# Altium footprint library MS5611.PcbLib: 1 footprints
Each footprint in its own frame and in the unit in brackets; x right, y up, seen from the top. Pads: shape width x height; smd on the part's side, far side on the other; paste and mask are expansions set on the pad; w line width, h text height; cw(c..) or ccw(c..) is an arc to the next point about the centre after c.
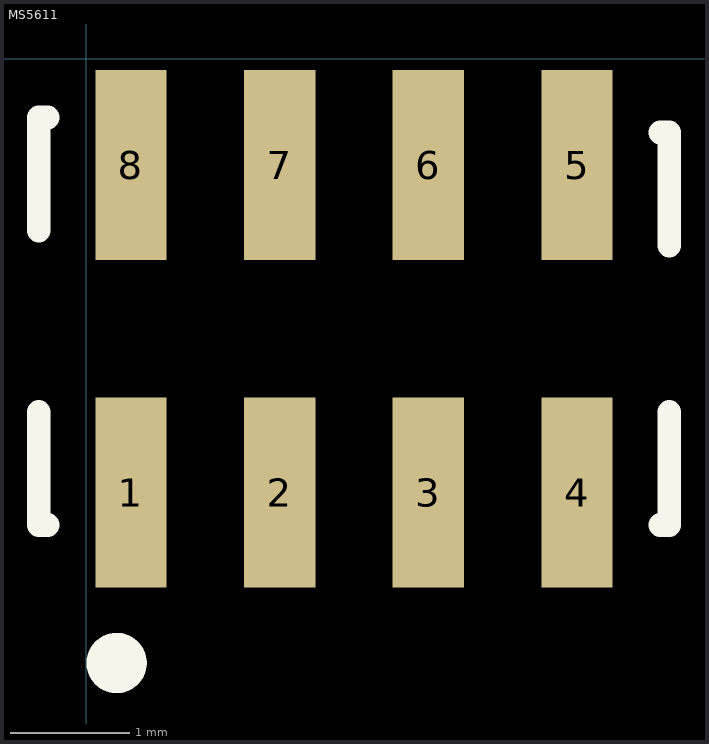
[diagram p0: the footprint, top view; thin cyan lines are the x and y axes]

## MS5611 [mm]
pads (8):
  rect 0.6x1.6 smd: 1(0.375,-3.647) 2(1.625,-3.647) 3(2.875,-3.647) 4(4.125,-3.647) 5(4.125,-0.893) 6(2.875,-0.893) 7(1.625,-0.893) 8(0.375,-0.893)
Top Overlay:
  circle w0.254: c0.254,-5.08 r0.127
  lines w0.2: -0.4,-2.97 -0.4,-3.92 -0.325,-3.92 ; -0.4,-1.443 -0.4,-0.493 -0.325,-0.493 ; 4.825,-3.92 4.9,-3.92 4.9,-2.97 ; 4.825,-0.62 4.9,-0.62 4.9,-1.57